# Altium footprint library Kinetis ARM.PcbLib: 19 footprints (part 2 of 2)
Each footprint in its own frame and in the unit in brackets; x right, y up, seen from the top. Pads: shape width x height; smd on the part's side, far side on the other; paste and mask are expansions set on the pad; w line width, h text height; cw(c..) or ccw(c..) is an arc to the next point about the centre after c.
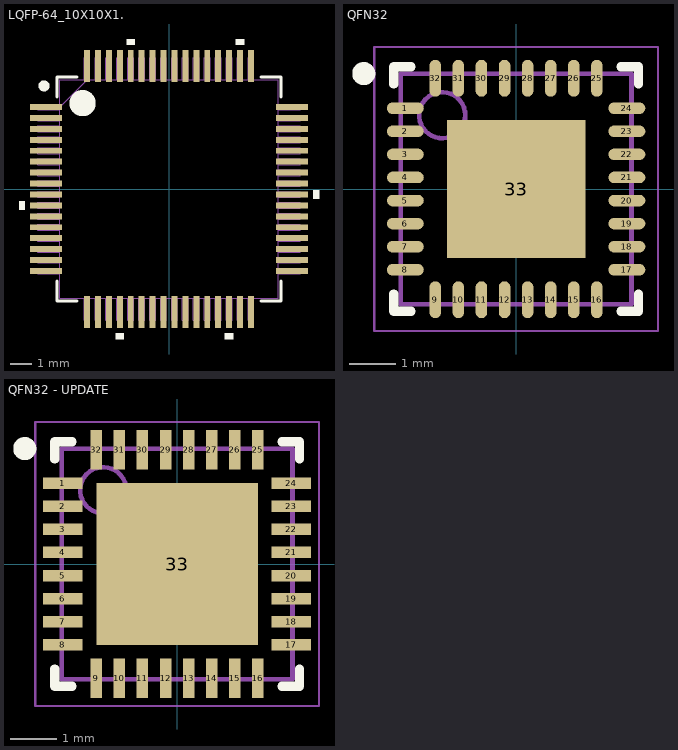
[diagram p1: the footprints below, top view; thin cyan lines are the x and y axes]

## LQFP-64_10X10X1. [mm]
pads (64):
  rect 1.461x0.27 smd: 1(-5.625,3.75) 2(-5.625,3.25) 3(-5.625,2.75) 4(-5.625,2.25) 5(-5.625,1.75) 6(-5.625,1.25) 7(-5.625,0.75) 8(-5.625,0.25) 9(-5.625,-0.25) 10(-5.625,-0.75) 11(-5.625,-1.25) 12(-5.625,-1.75) 13(-5.625,-2.25) 14(-5.625,-2.75) 15(-5.625,-3.25) 16(-5.625,-3.75) 33(5.625,-3.75) 34(5.625,-3.25) 35(5.625,-2.75) 36(5.625,-2.25) 37(5.625,-1.75) 38(5.625,-1.25) 39(5.625,-0.75) 40(5.625,-0.25) 41(5.625,0.25) 42(5.625,0.75) 43(5.625,1.25) 44(5.625,1.75) 45(5.625,2.25) 46(5.625,2.75) 47(5.625,3.25) 48(5.625,3.75)
  rect 0.27x1.461 smd: 17(-3.75,-5.625) 18(-3.25,-5.625) 19(-2.75,-5.625) 20(-2.25,-5.625) 21(-1.75,-5.625) 22(-1.25,-5.625) 23(-0.75,-5.625) 24(-0.25,-5.625) 25(0.25,-5.625) 26(0.75,-5.625) 27(1.25,-5.625) 28(1.75,-5.625) 29(2.25,-5.625) 30(2.75,-5.625) 31(3.25,-5.625) 32(3.75,-5.625) 49(3.75,5.625) 50(3.25,5.625) 51(2.75,5.625) 52(2.25,5.625) 53(1.75,5.625) 54(1.25,5.625) 55(0.75,5.625) 56(0.25,5.625) 57(-0.25,5.625) 58(-0.75,5.625) 59(-1.25,5.625) 60(-1.75,5.625) 61(-2.25,5.625) 62(-2.75,5.625) 63(-3.25,5.625) 64(-3.75,5.625)
Top Overlay:
  circle w0.25: c-5.721,4.719 r0.125
  circle w0.6: c-3.955,3.929 r0.3
  region: -1.559,6.61 -1.94,6.61 -1.94,6.864 -1.559,6.864
  region: 3.441,6.61 3.06,6.61 3.06,6.864 3.441,6.864
  region: 6.61,-0.059 6.864,-0.059 6.864,-0.44 6.61,-0.44
  region: 2.94,-6.61 2.559,-6.61 2.559,-6.864 2.94,-6.864
  region: -2.06,-6.61 -2.441,-6.61 -2.441,-6.864 -2.06,-6.864
  region: -6.61,-0.56 -6.864,-0.56 -6.864,-0.941 -6.61,-0.941
  lines w0.152: -5.127,-4.218 -5.127,-5.127 -4.218,-5.127 ; -5.127,4.218 -5.127,5.127 -4.218,5.127 ; 4.218,-5.127 5.127,-5.127 5.127,-4.218 ; 4.218,5.127 5.127,5.127 5.127,4.218
Mechanical 1:
  drawing of 261 lines, arcs and shapes, not listed
3D body "User Library-LQFP64_Grid_0_5.STEP": height 1.6, standoff 0, extent -6,-6 6,6

## QFN32 [mm] "QFN, 32-Leads, Body 5,00x5,00mm, Pitch 0,50mm, Thermal Pad 3,60x3,60mm, IPC Medium Density"
height 0.65
pads (33):
  oval 0.8x0.25 smd: 1(-2.4,1.75) 2(-2.4,1.25) 3(-2.4,0.75) 4(-2.4,0.25) 5(-2.4,-0.25) 6(-2.4,-0.75) 7(-2.4,-1.25) 8(-2.4,-1.75) 17(2.4,-1.75) 18(2.4,-1.25) 19(2.4,-0.75) 20(2.4,-0.25) 21(2.4,0.25) 22(2.4,0.75) 23(2.4,1.25) 24(2.4,1.75)
  oval 0.25x0.8 smd: 9(-1.75,-2.4) 10(-1.25,-2.4) 11(-0.75,-2.4) 12(-0.25,-2.4) 13(0.25,-2.4) 14(0.75,-2.4) 15(1.25,-2.4) 16(1.75,-2.4) 25(1.75,2.4) 26(1.25,2.4) 27(0.75,2.4) 28(0.25,2.4) 29(-0.25,2.4) 30(-0.75,2.4) 31(-1.25,2.4) 32(-1.75,2.4)
  rect 3x3 smd: 33(0,0)
Top Overlay:
  circle w0.25: c-3.3,2.5 r0.125
  lines w0.2: -2.65,-2.275 -2.65,-2.65 -2.275,-2.65 ; -2.65,2.275 -2.65,2.65 -2.275,2.65 ; 2.275,-2.65 2.65,-2.65 2.65,-2.275 ; 2.275,2.65 2.65,2.65 2.65,2.275
Mechanical 13:
  circle w0.1: c-1.6,1.6 r0.5
  lines w0.1: -2.5,-2.5 -2.5,2.5 2.5,2.5 2.5,-2.5 -2.5,-2.5
Mechanical 15:
  lines w0.05: -3.075,-3.075 -3.075,3.075 3.075,3.075 3.075,-3.075 -3.075,-3.075
  lines w0.1: -0.5,0 0.5,0 ; 0,-0.5 0,0.5
3D body "QFN32-5x5.step": height 0.8, standoff 0, extent -2.51,-2.51 2.51,2.51

## QFN32 - UPDATE [mm] "QFN, 32-Leads, Body 5,00x5,00mm, Pitch 0,50mm, Thermal Pad 3,60x3,60mm, IPC Medium Density"
height 0.65
pads (33):
  rect 0.85x0.25 smd mask+0.068: 1(-2.475,1.75) 2(-2.475,1.25) 3(-2.475,0.75) 4(-2.475,0.25) 5(-2.475,-0.25) 6(-2.475,-0.75) 7(-2.475,-1.25) 8(-2.475,-1.75) 17(2.475,-1.75) 18(2.475,-1.25) 19(2.475,-0.75) 20(2.475,-0.25) 21(2.475,0.25) 22(2.475,0.75) 23(2.475,1.25) 24(2.475,1.75)
  rect 0.25x0.85 smd mask+0.068: 9(-1.75,-2.475) 10(-1.25,-2.475) 11(-0.75,-2.475) 12(-0.25,-2.475) 13(0.25,-2.475) 14(0.75,-2.475) 15(1.25,-2.475) 16(1.75,-2.475) 25(1.75,2.475) 26(1.25,2.475) 27(0.75,2.475) 28(0.25,2.475) 29(-0.25,2.475) 30(-0.75,2.475) 31(-1.25,2.475) 32(-1.75,2.475)
  rect 3.5x3.5 smd mask+0.068: 33(0,0)
Top Overlay:
  circle w0.25: c-3.3,2.5 r0.125
  lines w0.2: -2.65,-2.275 -2.65,-2.65 -2.275,-2.65 ; -2.65,2.275 -2.65,2.65 -2.275,2.65 ; 2.275,-2.65 2.65,-2.65 2.65,-2.275 ; 2.275,2.65 2.65,2.65 2.65,2.275
Mechanical 13:
  circle w0.1: c-1.6,1.6 r0.5
  lines w0.1: -2.5,-2.5 -2.5,2.5 2.5,2.5 2.5,-2.5 -2.5,-2.5
Mechanical 15:
  lines w0.05: -3.075,-3.075 -3.075,3.075 3.075,3.075 3.075,-3.075 -3.075,-3.075
  lines w0.1: -0.5,0 0.5,0 ; 0,-0.5 0,0.5
3D body "QFN32-5x5.step": height 0.8, standoff 0, extent -2.51,-2.51 2.51,2.51